# Altium footprint library INDM1110X1000X400L150X300N.PcbLib: 1 footprints
Each footprint in its own frame and in the unit in brackets; x right, y up, seen from the top. Pads: shape width x height; smd on the part's side, far side on the other; paste and mask are expansions set on the pad; w line width, h text height; cw(c..) or ccw(c..) is an arc to the next point about the centre after c.
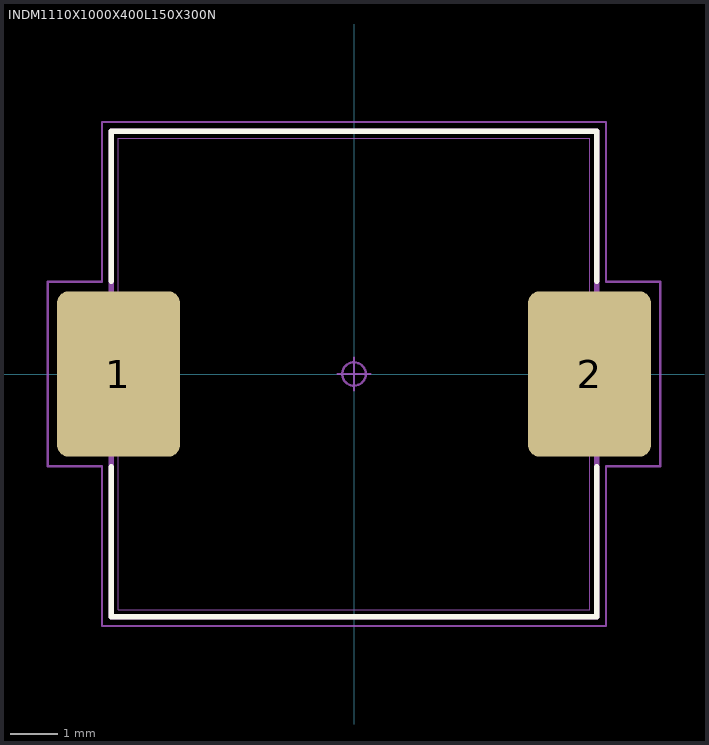
[diagram p0: the footprint, top view; thin cyan lines are the x and y axes]

## INDM1110X1000X400L150X300N [mm] "Inductor, Molded Body; 10.00 mm L X 10.00 mm W X 4.00 mm H body"
height 4
pads (2):
  rrect19% 2.61x3.51 smd: 1(-5,0) 2(5,0)
Top Overlay:
  lines w0.12: -5.15,-1.975 -5.15,-5.15 5.15,-5.15 5.15,-1.975 ; -5.15,1.975 -5.15,5.15 5.15,5.15 5.15,1.975
Mechanical 3:
  lines w0.12: -5.15,-5.15 -5.15,5.15 5.15,5.15 5.15,-5.15 -5.15,-5.15
Mechanical 5:
  lines w0.025: -5.55,-1.5 -4.05,-1.5 -4.05,1.5 -5.55,1.5 -5.55,-1.5 ; -5,-5 -5,5 5,5 5,-5 -5,-5 ; 4.05,-1.5 4.05,1.5 5.55,1.5 5.55,-1.5 4.05,-1.5
Mechanical 7:
  circle w0.05: c0,0 r0.25
  lines w0.05: -0.35,0 0.35,0 ; 0,-0.35 0,0.35 ; -6.505,-1.955 -6.505,1.955 -5.35,1.955 -5.35,5.35 5.35,5.35 5.35,1.955 6.505,1.955 6.505,-1.955 5.35,-1.955 5.35,-5.35 -5.35,-5.35 -5.35,-1.955 -6.505,-1.955
Mechanical 9:
  text "'.Designator'" at -5.715,-0.254 h1
3D body "INDM1110X1000X400L150X300.STEP": height 4, standoff 0, extent -5.55,-5 5.55,5
3D body: height 1.04, standoff 0, extent -6.505,-5.35 6.505,5.35